# EAGLE library part CON-TC2030 (library mylib)
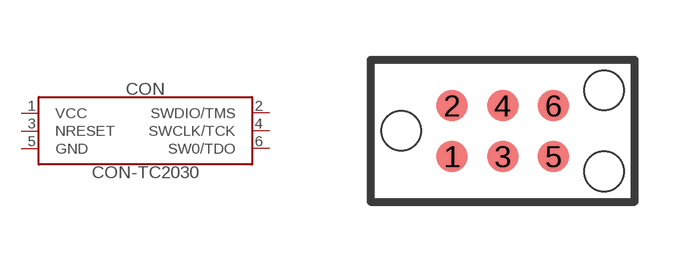
[diagram p111: symbol with the pads of CON-TC2030-IDC-NL; footprint CON-TC2030-IDC-NL]

Designator prefix CON

## CON-TC2030-CTL-NL  [CON-TC2030-IDC-NL]
1  VCC
2  SWDIO/TMS
3  NRESET
4  SWCLK/TCK
5  GND
6  SW0/TDO

## Footprint CON-TC2030-IDC-NL (pad centres in mm)
smd 0.787 x 0.787: 1 -1.27,-0.635; 2 -1.27,0.635; 3 0,-0.635; 4 0,0.635; 5 1.27,-0.635; 6 1.27,0.635
hole 0.991 at -2.54,0
hole 0.991 at 2.54,1.016
hole 0.991 at 2.54,-1.016